# EAGLE library part NEO (library paparazzi)
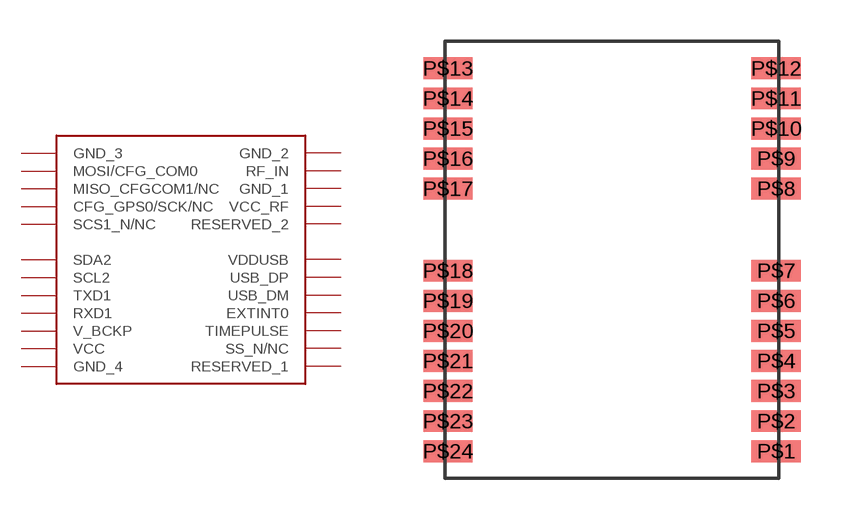
[diagram p58: symbol with the pads of NEO; footprint NEO]

Designator prefix -

## NEO  [NEO]
P$1  RESERVED_1
P$2  SS_N/NC
P$3  TIMEPULSE
P$4  EXTINT0
P$5  USB_DM
P$6  USB_DP
P$7  VDDUSB
P$8  RESERVED_2
P$9  VCC_RF
P$10  GND_1
P$11  RF_IN
P$12  GND_2
P$13  GND_3
P$14  MOSI/CFG_COM0
P$15  MISO_CFGCOM1/NC
P$16  CFG_GPS0/SCK/NC
P$17  SCS1_N/NC
P$18  SDA2
P$19  SCL2
P$20  TXD1
P$21  RXD1
P$22  V_BCKP
P$23  VCC
P$24  GND_4

## Footprint NEO (pad centres in mm)
smd 1.8 x 0.8: P$1 6,-7; P$2 6,-5.9; P$3 6,-4.8; P$4 6,-3.7; P$5 6,-2.6; P$6 6,-1.5; P$7 6,-0.4; P$8 6,2.6; P$9 6,3.7; P$10 6,4.8; P$11 6,5.9; P$12 6,7; P$13 -6,7; P$14 -6,5.9; P$15 -6,4.8; P$16 -6,3.7; P$17 -6,2.6; P$18 -6,-0.4; P$19 -6,-1.5; P$20 -6,-2.6; P$21 -6,-3.7; P$22 -6,-4.8; P$23 -6,-5.9; P$24 -6,-7